# Altium footprint library BATTERIJ.PcbLib: 3 footprints
Each footprint in its own frame and in the unit in brackets; x right, y up, seen from the top. Pads: shape width x height; smd on the part's side, far side on the other; paste and mask are expansions set on the pad; w line width, h text height; cw(c..) or ccw(c..) is an arc to the next point about the centre after c.
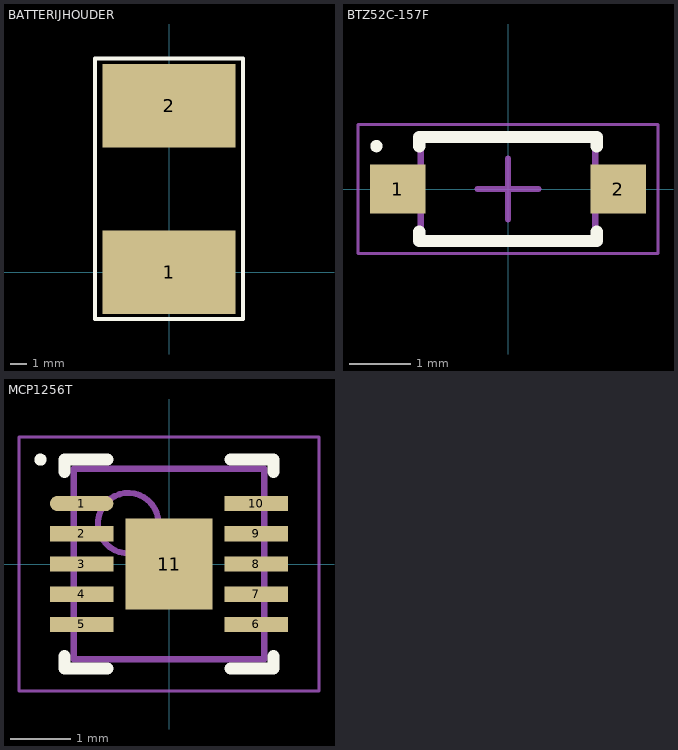
[diagram p0: the footprints below, top view; thin cyan lines are the x and y axes]

## BATTERIJHOUDER [mm]
pads (2):
  rect 8x5 smd: 1(0,0) 2(0,10)
Top Overlay:
  lines w0.254: -4.445,-2.794 -4.445,12.827 4.445,12.827 4.445,-2.794 -4.445,-2.794

## BTZ52C-157F [mm] "Zenerdiode Batterij bescherming"
pads (2):
  rect 0.9x0.8 smd: 1(-1.8,0) 2(1.8,0)
Top Overlay:
  circle w0.1: c-2.15,0.7 r0.05
  lines w0.2: -1.45,-0.7 -1.45,-0.85 1.45,-0.85 1.45,-0.7 ; -1.45,0.7 -1.45,0.85 1.45,0.85 1.45,0.7
Top Assembly:
  lines w0.1: -1.425,-0.85 1.425,-0.85 1.425,0.85 -1.425,0.85 -1.425,-0.85
Top Courtyard:
  lines w0.05: -2.45,-1.05 2.45,-1.05 2.45,1.05 -2.45,1.05 -2.45,-1.05
  lines w0.1: -0.5,0 0.5,0 ; 0,-0.5 0,0.5
3D body: height 1.35, standoff 0, extent -1.425,-0.85 1.425,0.85

## MCP1256T [mm] "SON, 10-Leads, Body 3.00x3.00mm, Pitch 0.50mm, Thermal Pad 1.50x1.44mm, IPC Low Density"
height 1
pads (11):
  oval 1.05x0.25 smd: 1(-1.445,1)
  rect 1.05x0.25 smd: 2(-1.445,0.5) 3(-1.445,0) 4(-1.445,-0.5) 5(-1.445,-1) 6(1.445,-1) 7(1.445,-0.5) 8(1.445,0) 9(1.445,0.5) 10(1.445,1)
  rect 1.44x1.5 smd: 11(0,0)
Top Overlay:
  circle w0.1: c-2.125,1.725 r0.05
  lines w0.2: -1.725,-1.525 -1.725,-1.725 -1.02,-1.725 ; -1.725,1.525 -1.725,1.725 -1.02,1.725 ; 1.02,-1.725 1.725,-1.725 1.725,-1.525 ; 1.02,1.725 1.725,1.725 1.725,1.525
Top Assembly:
  circle w0.1: c-0.675,0.675 r0.5
  lines w0.1: -1.575,-1.575 1.575,-1.575 1.575,1.575 -1.575,1.575 -1.575,-1.575
Top Courtyard:
  lines w0.05: -2.48,-2.1 2.48,-2.1 2.48,2.1 -2.48,2.1 -2.48,-2.1
  lines w0.1: -0.5,0 0.5,0 ; 0,-0.5 0,0.5
3D body: height 1, standoff 0.02, extent -1.575,-1.575 1.575,1.575